# EAGLE library part LCD (library oTFTeatherWing)
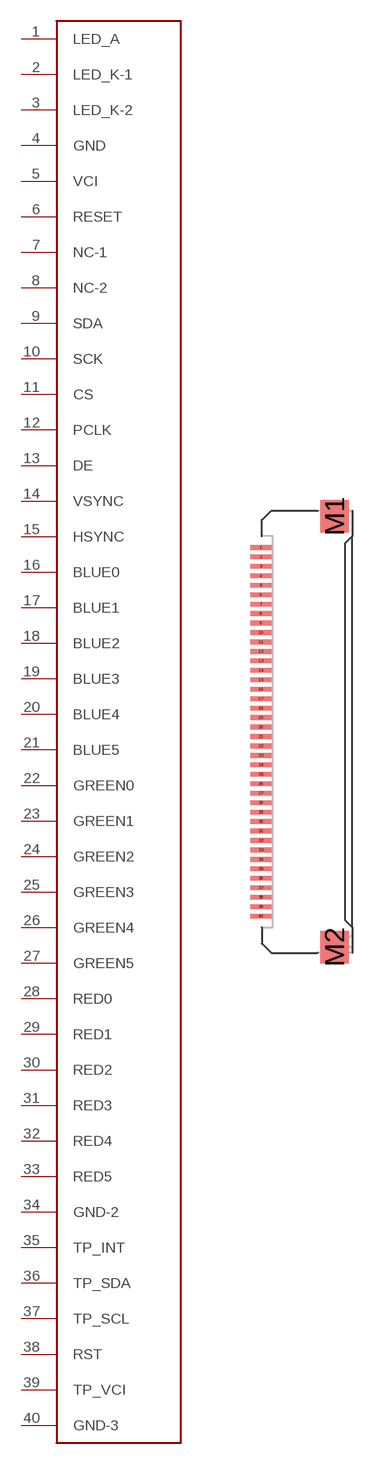
[diagram p1: symbol with the pads of XF2M-4015-1F-REVERSE; footprint XF2M-4015-1F-REVERSE]

Designator prefix -

## LCD  [XF2M-4015-1F-REVERSE]
1  LED_A
2  LED_K-1
3  LED_K-2
4  GND
5  VCI
6  RESET
7  NC-1
8  NC-2
9  SDA
10  SCK
11  CS
12  PCLK
13  DE
14  VSYNC
15  HSYNC
16  BLUE0
17  BLUE1
18  BLUE2
19  BLUE3
20  BLUE4
21  BLUE5
22  GREEN0
23  GREEN1
24  GREEN2
25  GREEN3
26  GREEN4
27  GREEN5
28  RED0
29  RED1
30  RED2
31  RED3
32  RED4
33  RED5
34  GND-2
35  TP_INT
36  TP_SDA
37  TP_SCL
38  RST
39  TP_VCI
40  GND-3

## Footprint XF2M-4015-1F-REVERSE (pad centres in mm)
smd 1.1 x 0.25: 1 -2.54,9.75; 2 -2.54,9.25; 3 -2.54,8.75; 4 -2.54,8.25; 5 -2.54,7.75; 6 -2.54,7.25; 7 -2.54,6.75; 8 -2.54,6.25; 9 -2.54,5.75; 10 -2.54,5.25; 11 -2.54,4.75; 12 -2.54,4.25; 13 -2.54,3.75; 14 -2.54,3.25; 15 -2.54,2.75; 16 -2.54,2.25; 17 -2.54,1.75; 18 -2.54,1.25; 19 -2.54,0.75; 20 -2.54,0.25; 21 -2.54,-0.25; 22 -2.54,-0.75; 23 -2.54,-1.25; 24 -2.54,-1.75; 25 -2.54,-2.25; 26 -2.54,-2.75; 27 -2.54,-3.25; 28 -2.54,-3.75; 29 -2.54,-4.25; 30 -2.54,-4.75; 31 -2.54,-5.25; 32 -2.54,-5.75; 33 -2.54,-6.25; 34 -2.54,-6.75; 35 -2.54,-7.25; 36 -2.54,-7.75; 37 -2.54,-8.25; 38 -2.54,-8.75; 39 -2.54,-9.25; 40 -2.54,-9.75
smd 1.5 x 1.7: M1 1.36,11.4; M2 1.36,-11.4